# Altium schematic symbol library analog.SchLib: 5 symbols
Pins are listed as number, name and electrical type; pins without a type are passive.

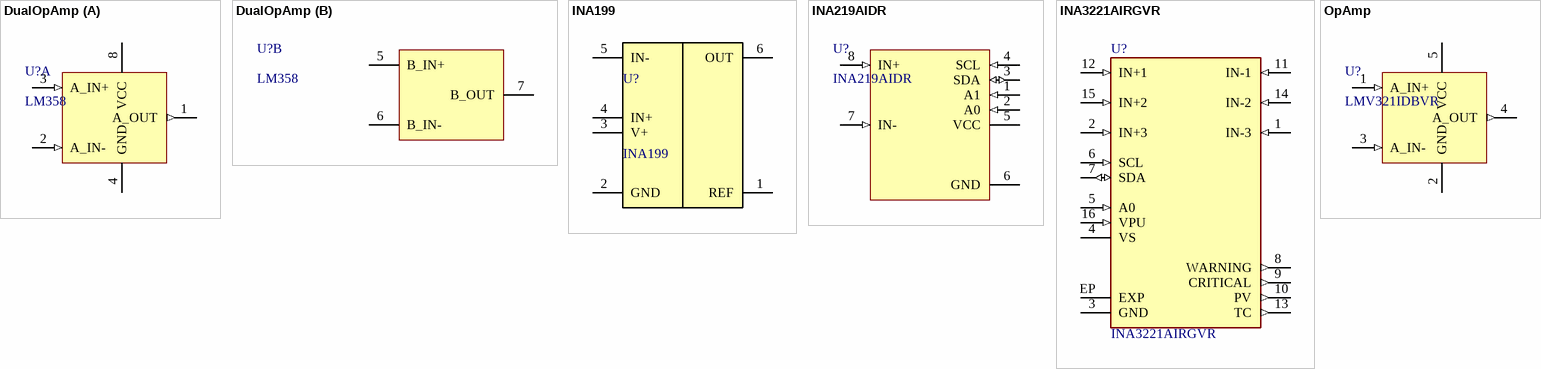
[diagram p0: symbols DualOpAmp to OpAmp]

## DualOpAmp
designator U?, comment LM358
Operational amplifier
footprint SO-8 (Small Outline; 8 Leads; Body Width 3.9 mm; Pitch 1.27 mm)
footprint DFN-8-2x2
part A pins: 1 A_OUT (out), 2 A_IN- (in), 3 A_IN+ (in), 4 GND (power), 8 VCC (power)
part B pins: 5 B_IN+, 6 B_IN-, 7 B_OUT

## INA199
designator U?
Current shunt monitor; IsSMT: NoSMT
footprint SOT-323-6 (SC-70) (TSOP, 6-Leads, Body 2.00x1.25mm, Pitch 0.65mm, IPC Medium Density)
pins: 1 REF, 2 GND, 3 V+, 4 IN+, 5 IN-, 6 OUT

## INA219AIDR
designator U?
Current shunt monitor
footprint SO-8 (Small Outline; 8 Leads; Body Width 3.9 mm; Pitch 1.27 mm)
pins: 1 A1 (in), 2 A0 (in), 3 SDA (io), 4 SCL (in), 5 VCC (power), 6 GND (power), 7 IN- (in), 8 IN+ (in)

## INA3221AIRGVR
designator U?
3x current sensing driver
footprint VQFN-16
pins: 1 IN-3 (in), 2 IN+3 (in), 3 GND (power), 4 VS (power), 5 A0 (in), 6 SCL (in), 7 SDA (io), 8 WARNING (out), 9 CRITICAL (out), 10 PV (out), 11 IN-1 (in), 12 IN+1 (in), 13 TC (out), 14 IN-2 (in), 15 IN+2 (in), 16 VPU (in), EP EXP (power)

## OpAmp
designator U?, comment LMV321IDBVR
Single op-amp
footprint SOT23-5 (SOT23, 5-Leads, Body 2,90x2,80mm, Pitch 0,95mm, IPC Low Density)
pins: 1 A_IN+ (in), 2 GND (power), 3 A_IN- (in), 4 A_OUT (out), 5 VCC (power)